# Altium schematic symbol library RC531.SCHLIB: 9 symbols
Pins are listed as number, name and electrical type; pins without a type are passive.

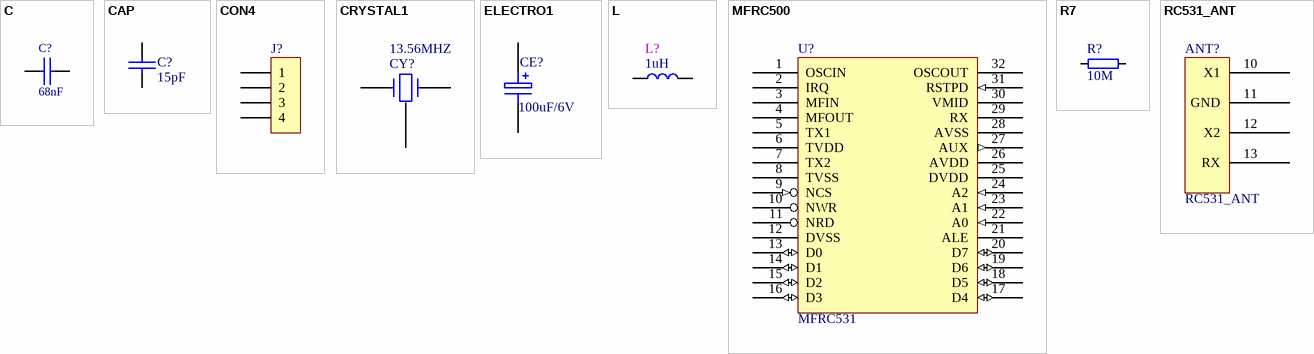
[diagram p0: symbols C to RC531_ANT]

## C
designator C?, comment 68nF
Text Field1: 10; Text Field2: 20
footprint 0603
footprint 0805
footprint C5
footprint C7.5
footprint 0603C
pins: 1, 2
2 alternate drawings of the same symbol

## CAP
designator C?, comment 15pF
Capacitor
footprint 0603C
pins: 1, 2

## CON4
designator J?
Connector
footprint SIP4
pins: 1, 2, 3, 4

## CRYSTAL1
designator CY?, comment 13.56MHZ
Crystal
footprint CY_X1
pins: 1, 2, 3

## ELECTRO1
designator CE?, comment 100uF/6V
Electrolytic Capacitor
footprint RB0.1/0.2-LIE
footprint C1210
pins: 1, 2
2 alternate drawings of the same symbol

## L
designator L?, comment 1uH
Text Field1: 10; Text Field2: 20
footprint 0603
footprint 0805
footprint L10
footprint R0402
footprint R0603
pins: 1, 2
2 alternate drawings of the same symbol

## MFRC500
designator U?, comment MFRC531
footprint SO32X
pins: 1 OSCIN, 2 IRQ, 3 MFIN, 4 MFOUT, 5 TX1, 6 TVDD (power), 7 TX2, 8 TVSS (power), 9 NCS (in), 10 NWR, 11 NRD, 12 DVSS (power), 13 D0 (io), 14 D1 (io), 15 D2 (io), 16 D3 (io), 17 D4 (io), 18 D5 (io), 19 D6 (io), 20 D7 (io), 21 ALE, 22 A0 (in), 23 A1 (in), 24 A2 (in), 25 DVDD (power), 26 AVDD (power), 27 AUX (out), 28 AVSS (power), 29 RX, 30 VMID, 31 RSTPD (in), 32 OSCOUT

## R7
designator R?, comment 10M
footprint axial0.5
footprint R0402
footprint R0603
pins: 1, 2
2 alternate drawings of the same symbol

## RC531_ANT
designator ANT?
footprint RC531_ANT
pins: 10 X1, 11 GND, 12 X2, 13 RX